# Altium schematic symbol library CRCW0402100KFKED.SchLib: 1 symbol
Pins are listed as number, name and electrical type; pins without a type are passive.

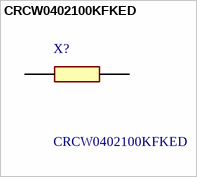
[diagram p0: symbol CRCW0402100KFKED]

## CRCW0402100KFKED
designator X?
CRCW0402 Resistor T/R 0.063W,1%,100K Vishay CRCW Series Thick Film Surface Mount Resistor 0402 Case 100k +/-1% 0.063W +/-100ppm/C; Geometry.Height: 0.4mm; Manufacturer_Name: Vishay; Manufacturer_Part_Number: CRCW0402100KFKED; Mouser Part Number: 71-CRCW0402-100K-E3; Mouser Price/Stock: https://www.mouser.co.uk/ProductDetail/Vishay-Dale/CRCW0402100KFKED?qs=OlqPY1CiralZGKRwQ4Glcg%3D%3D; Arrow Part Number: CRCW0402100KFKED; Arrow Price/Stock: https://www.arrow.com/en/products/crcw0402100kfked/vishay?region=nac; Datasheet Link: http://www.vishay.com/docs/20035/dcrcwe3.pdf
footprint RESC1005X40N
pins: 1, 2